# Altium schematic symbol library MC79M12.Schlib: 1 symbol
Pins are listed as number, name and electrical type; pins without a type are passive.

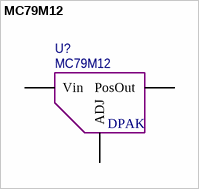
[diagram p0: symbol MC79M12]

## MC79M12
designator U?
pins: 1 ADJ, 3 PosOut, 4 Vin
text: DPAK